# EAGLE library part LM3405 (library m_misc)
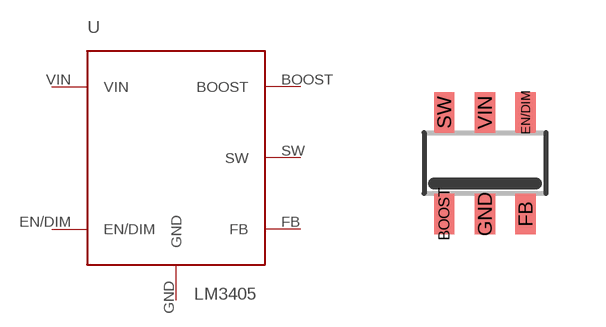
[diagram p2: symbol with the pads of SOT23-6; footprint SOT23-6]

Designator prefix -

## LM3405  [SOT23-6]
BOOST  BOOST
EN/DIM  EN/DIM
FB  FB
GND  GND  pwr
SW  SW
VIN  VIN  pwr

## Footprint SOT23-6 (pad centres in mm)
smd 0.508 x 1.016: BOOST -1.016,-1.27; EN/DIM 1.016,1.27; FB 1.016,-1.27; GND 0,-1.27; SW -1.016,1.27; VIN 0,1.27